# EAGLE library part 2X0.28_LED_DISP_POGO_PIN_HARNESS (library testing_jig)
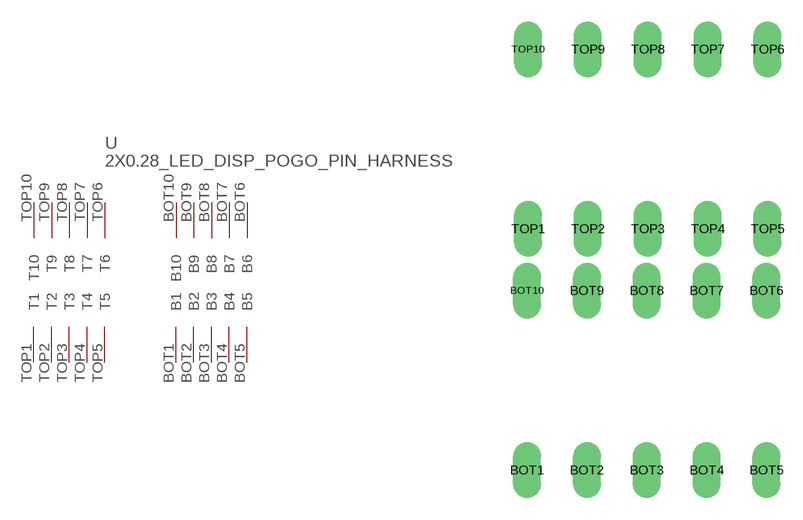
[diagram p2: symbol with the pads of 2X0.28_LED_DISP_POGO_PIN_HARNESS; footprint 2X0.28_LED_DISP_POGO_PIN_HARNESS]

Designator prefix -

## 2X0.28_LED_DISP_POGO_PIN_HARNESS  [2X0.28_LED_DISP_POGO_PIN_HARNESS]
BOT1  B1
BOT2  B2
BOT3  B3
BOT4  B4
BOT5  B5
BOT6  B6
BOT7  B7
BOT8  B8
BOT9  B9
BOT10  B10
TOP1  T1
TOP2  T2
TOP3  T3
TOP4  T4
TOP5  T5
TOP6  T6
TOP7  T7
TOP8  T8
TOP9  T9
TOP10  T10

## Footprint 2X0.28_LED_DISP_POGO_PIN_HARNESS (pad centres in mm)
drill 0.68 pad 0.98 long: BOT1 -5.12,-10.24; BOT2 -2.58,-10.24; BOT3 -0.04,-10.24; BOT4 2.5,-10.24; BOT5 5.04,-10.24; BOT6 5.04,-2.62; BOT7 2.5,-2.62; BOT8 -0.04,-2.62; BOT9 -2.58,-2.62; BOT10 -5.12,-2.62; TOP1 -5.08,0; TOP2 -2.54,0; TOP3 0,0; TOP4 2.54,0; TOP5 5.08,0; TOP6 5.08,7.62; TOP7 2.54,7.62; TOP8 0,7.62; TOP9 -2.54,7.62; TOP10 -5.08,7.62